# Altium schematic symbol library 连接器.SchLib: 51 symbols
Pins are listed as number, name and electrical type; pins without a type are passive.

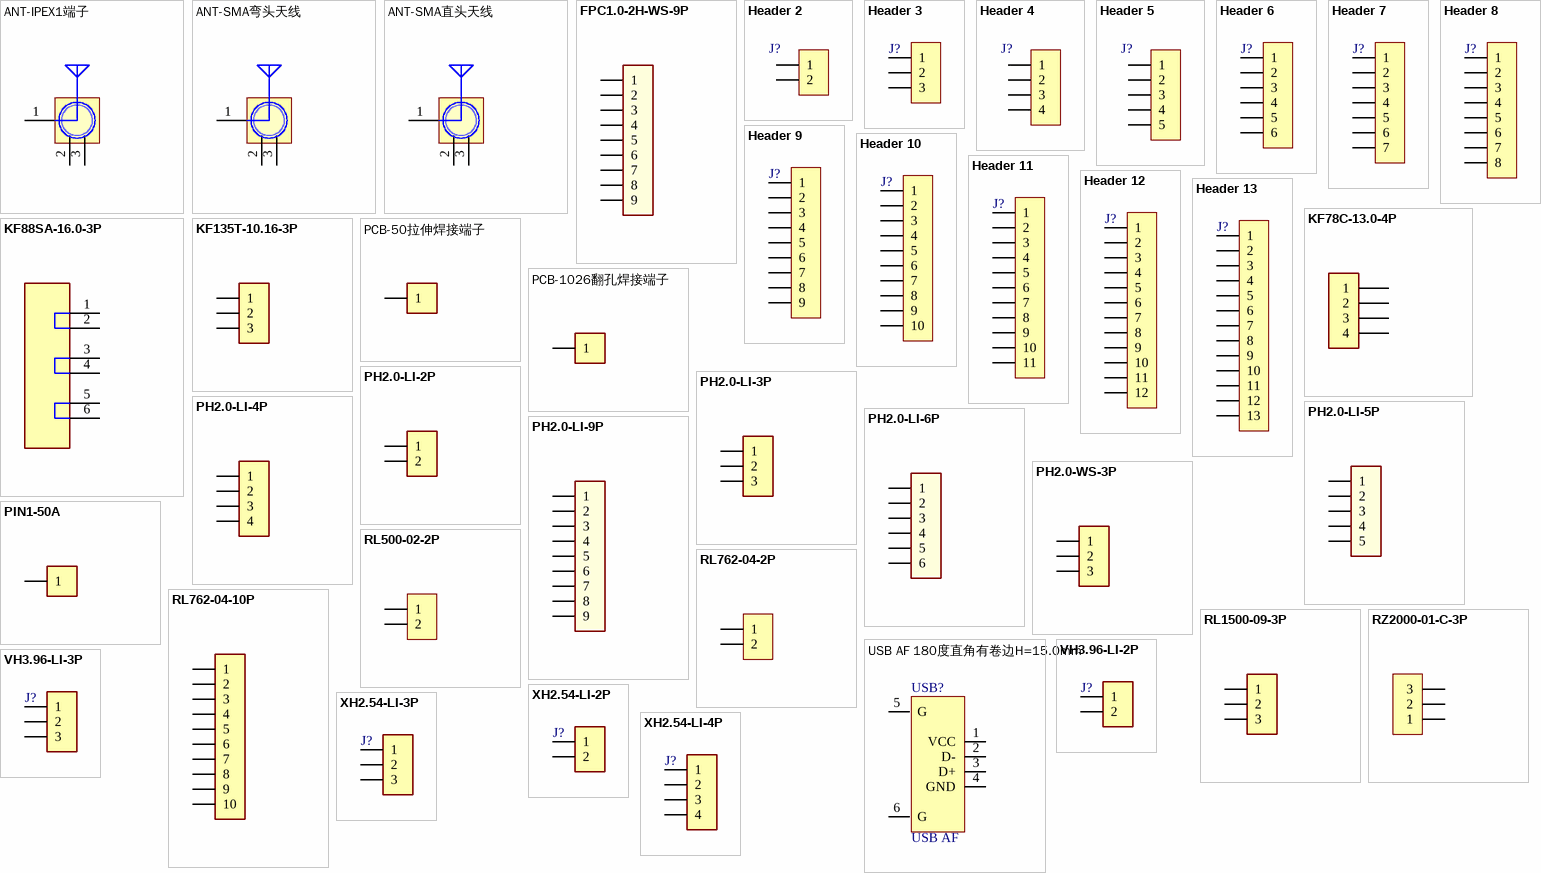
[diagram p0: symbols ANT-IPEX1端子 to XH2.54-LI-4P]

## ANT-IPEX1端子
designator ANT?
IPEX1端子; 金蝶料号: 010118020001; 插件/贴片: 贴片; 器件状态: 启用; 厂家: *; 厂家型号: ANT-IPEX1端子; 工作温度: *; 值: *; ComponentLink1Description: New link; ComponentLink1URL: *
footprint ANT-SMA_IPEX (小型贴片IPEX天线座)
pins: 1 ANT, 2 GND, 3 GND

## ANT-SMA弯头天线
designator ANT?
ANT-SMA弯头天线; 金蝶料号: 010118020002; 插件/贴片: 插件; 器件状态: 启用; 厂家: *; 厂家型号: *; 工作温度: *; 值: *; ComponentLink1Description: New link; ComponentLink1URL: *
footprint ANT-SMA_FR (SMA 90度射频天线座)
pins: 1 ANT, 2 GND, 3 GND

## ANT-SMA直头天线
designator ANT?
金蝶料号: 010118020003; 插件/贴片: 插件; 器件状态: 启用; 厂家: *; 厂家型号: *; 工作温度: *; 值: *; ComponentLink1Description: New link; ComponentLink1URL: *
footprint ANT-SMA-KE-LI (SMA 立式直插射频天线座)
pins: 1 ANT, 2 GND, 3 GND

## FPC1.0-2H-WS-9P
designator J?
FPC端子; 插件/贴片: 贴片; 器件状态: 启用; 厂家: *; 厂家型号: *; 金蝶料号: *; 工作温度: *; 值: *; ComponentLink1Description: New link; ComponentLink1URL: *
footprint FPC1.0-2H-WS-9P (翻盖FPC，脚距1mm，不含脚（长13.9mm，宽5.2mm，高1.96mm）)
pins: 1, 2, 3, 4, 5, 6, 7, 8, 9

## Header 2
designator J?, comment HDR-1X2  (value not drawn)
2P接插件; 版权归属: 源创客; BOM名称: 2P接插件; 学习资源: www.ooocke.com
footprint HDR2.54-LI-2P (排针，2脚)
pins: 1, 2

## Header 3
designator J?, comment HDR-1X3  (value not drawn)
3P接插件; 版权归属: 源创客; BOM名称: 3P接插件; 学习资源: www.ooocke.com
footprint HDR2.54-LI-3P (排针，3脚)
pins: 1, 2, 3

## Header 4
designator J?, comment HDR-1X4  (value not drawn)
4P接插件; 版权归属: 源创客; BOM名称: 4P接插件; 学习资源: www.ooocke.com
footprint HDR2.54-LI-4P (排针，4脚)
pins: 1, 2, 3, 4

## Header 5
designator J?, comment HDR-1X5  (value not drawn)
5P接插件; 版权归属: 源创客; BOM名称: 5P接插件; 学习资源: www.ooocke.com
footprint HDR2.54-LI-5P (排针，5脚)
pins: 1, 2, 3, 4, 5

## Header 6
designator J?, comment HDR-1X6  (value not drawn)
6P接插件; 版权归属: 源创客; BOM名称: 6P接插件; 学习资源: www.ooocke.com
footprint HDR2.54-LI-6P (排针，6脚)
pins: 1, 2, 3, 4, 5, 6

## Header 7
designator J?, comment HDR-1X7  (value not drawn)
7P接插件; 版权归属: 源创客; BOM名称: 7P接插件; 学习资源: www.ooocke.com
footprint HDR2.54-LI-7P (排针，8脚)
pins: 1, 2, 3, 4, 5, 6, 7

## Header 8
designator J?, comment HDR-1X8  (value not drawn)
8P接插件; 版权归属: 源创客; BOM名称: 8P接插件; 学习资源: www.ooocke.com
footprint HDR2.54-LI-8P (排针，8脚)
pins: 1, 2, 3, 4, 5, 6, 7, 8

## Header 9
designator J?, comment HDR-1X9  (value not drawn)
9P接插件; 版权归属: 源创客; BOM名称: 9P接插件; 学习资源: www.ooocke.com
footprint HDR2.54-LI-9P (排针，9脚)
pins: 1, 2, 3, 4, 5, 6, 7, 8, 9

## Header 10
designator J?, comment HDR-1X10  (value not drawn)
10P接插件; 版权归属: 源创客; BOM名称: 10P接插件; 学习资源: www.ooocke.com
footprint HDR2.54-LI-10P (排针，10脚)
pins: 1, 2, 3, 4, 5, 6, 7, 8, 9, 10

## Header 11
designator J?, comment HDR-1X11  (value not drawn)
11P接插件; 版权归属: 源创客; BOM名称: 11P接插件; 学习资源: www.ooocke.com
footprint HDR2.54-LI-11P (排针)
pins: 1, 2, 3, 4, 5, 6, 7, 8, 9, 10, 11

## Header 12
designator J?, comment HDR-1X12  (value not drawn)
12P接插件; 版权归属: 源创客; BOM名称: 12P接插件; 学习资源: www.ooocke.com
footprint HDR2.54-LI-12P (排针，13脚)
pins: 1, 2, 3, 4, 5, 6, 7, 8, 9, 10, 11, 12

## Header 13
designator J?, comment HDR-1X13  (value not drawn)
13P接插件; 版权归属: 源创客; BOM名称: 13P接插件; 学习资源: www.ooocke.com
footprint HDR2.54-LI-13P (排针，13脚)
pins: 1, 2, 3, 4, 5, 6, 7, 8, 9, 10, 11, 12, 13

## KF78C-13.0-4P
designator J?
栅栏式接线端子 13.0MM  4P  40A; 厂家: *; 厂家型号: *; 金蝶料号: *; 工作温度: *; 插件/贴片: *; 值: *; 器件状态: *; ComponentLink1Description: New link; ComponentLink1URL: *
footprint KF78C-13.0-4P
pins: 1, 2, 3, 4

## KF88SA-16.0-3P
designator J?
栅栏式接线端子 16.0MM  3P  76A; 厂家: *; 厂家型号: *; 金蝶料号: *; 工作温度: *; 插件/贴片: *; 值: *; 器件状态: *; ComponentLink1Description: New link; ComponentLink1URL: *
footprint KF88SA-16.0-3P
pins: 1, 2, 3, 4, 5, 6

## KF135T-10.16-3P
designator J?
KF135T接线端子 3P; 厂家: 科发; 金蝶料号: 010118050149; 插件/贴片: 插件; 型号: *
footprint KF135T-10.16-3P
pins: 1, 2, 3

## PCB-50拉伸焊接端子
designator J?, comment 42A 拉伸焊接端子
42A; 厂家型号: PCB-50翻孔焊接端子; 金蝶料号: 010118050110; 插件/贴片: 插件; 器件状态: 在用
footprint PCB-50 (9*6.5*13.5)
pins: 1

## PCB-1026翻孔焊接端子
designator J?, comment 85A 翻孔焊接端子
85A; 厂家型号: PCB-1026翻孔焊接端子; 金蝶料号: 010118050109; 插件/贴片: 插件; 器件状态: 在用
footprint PCB-1026 (13*11.8*13)
pins: 1

## PH2.0-LI-2P
designator J?
PH端子 2.0MM 2P; 插件/贴片: 插件; 器件状态: 启用; 厂家: *; 厂家型号: *; 金蝶料号: *; 工作温度: *; 值: *; ComponentLink1Description: New link; ComponentLink1URL: *
footprint PH2.0-LI-2P (长：5.9mm，宽：4.7mm，高：6mm)
pins: 1, 2

## PH2.0-LI-3P
designator J?
PH2.0-3P 直插  耐高温; 金蝶料号: 010118050107; 插件/贴片: 插件; 器件状态: 启用; 厂家: *; 厂家型号: PH2.0-3P 直插  耐高温; 工作温度: *; 值: *; ComponentLink1Description: New link; ComponentLink1URL: *
footprint PH2.0-LI-3P (长：7.9mm，宽：4.7mm，高：6mm)
pins: 1, 2, 3

## PH2.0-LI-4P
designator J?
PH端子 2.0MM 4P; 插件/贴片: 插件; 器件状态: 启用; 厂家: *; 厂家型号: *; 金蝶料号: *; 工作温度: *; 值: *; ComponentLink1Description: New link; ComponentLink1URL: *
footprint PH2.0-LI-4P (长：9.9mm，宽：4.7mm，高：6mm)
pins: 1, 2, 3, 4

## PH2.0-LI-5P
designator J?
PH接线端子 2.0MM 5P; 厂家: 逸特; 金蝶料号: 010118050114; 插件/贴片: 插件; 器件状态: 启用; 厂家型号: PH2.0-LI-5P; 工作温度: *; 值: PH2.0-LI-5P; ComponentLink1Description: New link; ComponentLink1URL: *
footprint PH2.0-LI-5P (长：11.9mm，宽：4.7mm，高：6mm)
pins: 1, 2, 3, 4, 5

## PH2.0-LI-6P
designator J?
PH接线端子 2.0MM 6P; 厂家: 逸特; 金蝶料号: 010118050090; 插件/贴片: 插件; 器件状态: 启用; 厂家型号: PH2.0-LI-6P; 工作温度: *; 值: PH2.0-LI-6P; ComponentLink1Description: New link; ComponentLink1URL: *
footprint PH2.0-LI-6P (长：13.9mm，宽：4.7mm，高：6mm)
pins: 1, 2, 3, 4, 5, 6

## PH2.0-LI-9P
designator J?
PH端子 2.0MM 9P; 插件/贴片: 插件; 厂家: *; 厂家型号: *; 金蝶料号: *; 工作温度: *; 值: *; 器件状态: *; ComponentLink1Description: New link; ComponentLink1URL: *
footprint PH2.0-LI-9P (长：19.9mm，宽：4.7mm，高：6mm)
pins: 1, 2, 3, 4, 5, 6, 7, 8, 9

## PH2.0-WS-3P
designator J?
PH端子 2.0MM 3P 卧贴; 厂家型号: PH2.0-3P 卧贴  耐高温; 金蝶料号: 010118050106; 插件/贴片: 插件; 器件状态: 启用; 厂家: *; 工作温度: *; 值: *; ComponentLink1Description: New link; ComponentLink1URL: *
footprint PH2.0-WS-3P
pins: 1, 2, 3

## PIN1-50A
designator J?
50A; 插件/贴片: 插件; 器件状态: 启用; 厂家: *; 厂家型号: *; 金蝶料号: *; 工作温度: *; 值: *; ComponentLink1Description: New link; ComponentLink1URL: *
footprint PIN1_50A
pins: 1

## RL500-02-2P
designator J?
螺钉式接线端子 5.00mm; 厂家: 英普达; 金蝶料号: 010118050102; 插件/贴片: 插件; 器件状态: 启用; 厂家型号: RL500-02-2P; 工作温度: *; 值: RL500-02-2P; ComponentLink1Description: New link; ComponentLink1URL: *
footprint RL500-02-9P (螺钉式接线端子，脚距5.00mm)
pins: 1, 2

## RL762-04-2P
designator J?
螺钉式接线端子 7.62mm; 厂家: 英普达; 金蝶料号: 010118050101; 插件/贴片: 插件; 器件状态: 启用; 厂家型号: RL762-04-2P; 工作温度: *; 值: RL762-04-2P; ComponentLink1Description: New link; ComponentLink1URL: *
footprint RL762-04-2P (螺钉式接线端子，脚距7.62mm)
pins: 1, 2

## RL762-04-10P
designator U?
螺钉式PCB接线端子 RL系列，7.62mm间距， AC300V，20A，10P; 厂家: 苏州英普达; 金蝶料号: 010118050100; 工作温度: -40℃～+120℃; 插件/贴片: 插件; 器件状态: 启用; 厂家型号: RL762-04-10P; 值: *; ComponentLink1Description: New link; ComponentLink1URL: *
footprint PCB-7.62MM-10P-偏脚4.1
pins: 1, 2, 3, 4, 5, 6, 7, 8, 9, 10

## RL1500-09-3P
designator U?
螺钉式PCB接线端子; 厂家: 英普达; 插件/贴片: 插件; 器件状态: 启用; 厂家型号: RL1500-09-3P; 金蝶料号: *; 工作温度: *; 值: RL1500-09-3P; ComponentLink1Description: New link; ComponentLink1URL: *
footprint PCB-15mm-3P
pins: 1, 2, 3

## RZ2000-01-C-3P
designator J?
栅栏式接线端子 3P 80A; 厂家: 英普达; 金蝶料号: 010118050111; 插件/贴片: 插件; 器件状态: 在用; 厂家型号: RZ2000-01-C-3P; 值: RZ2000-01-C-3P
footprint RZ2000-01-C-3P (间距20mm，高36mm，宽28mm)
pins: 1, 2, 3

## USB AF 180度直角有卷边H=15.0mm
designator USB?, comment USB AF
USB座子 USB AF 180度直角有卷边H=15.0mm 1.5A; 厂家: 富盈精密部件(深圳)有限公司; 金蝶料号: 010118050055; 插件/贴片: 插件; 器件状态: 启用; 厂家型号: USB AF 180度直角有卷边H=15.0mm; 工作温度: *; 值: *
footprint USB-A-G
pins: 1 VCC, 2 D-, 3 D+, 4 GND, 5 G, 6 G

## VH3.96-LI-2P
designator J?  (value not drawn)
VH端子 2P立插 7A; 金蝶料号: 010118050153; 插件/贴片: 插件; 器件状态: 启用; 厂家型号: VH3.96-LI-2P; 工作温度: *; 值: *
footprint VH3.96-LI-2P (接插件，25V/5A)
pins: 1, 2

## VH3.96-LI-3P
designator J?  (value not drawn)
VH端子 3P立插 7A; 金蝶料号: 010118050154; 插件/贴片: 插件; 器件状态: 启用; 厂家型号: VH3.96-LI-3P; 工作温度: *; 值: *
footprint VH3.96-LI-3P (接插件，25V/5A  淘宝ID:黄晶宝石   店铺网址:https://shop463601444.taobao.com)
pins: 1, 2, 3

## XH2.54-LI-2P
designator J?  (value not drawn)
XH端子 2P立插; 厂家: 逸特; 金蝶料号: 010118050054; 插件/贴片: 插件; 器件状态: 启用; 厂家型号: *; 工作温度: *; 值: *
footprint XH2.54-LI-2P (接插件，2P)
pins: 1, 2

## XH2.54-LI-3P
designator J?  (value not drawn)
XH端子 3P立插; 金蝶料号: 010118050134; 插件/贴片: 插件; 器件状态: 启用; 厂家型号: XH2.54-LI-3P; 工作温度: *; 值: *
footprint XH2.54-LI-3P (接插件，3P)
pins: 1, 2, 3

## XH2.54-LI-4P
designator J?  (value not drawn)
XH端子 4P立插; 厂家: 逸特; 金蝶料号: 010118050095; 插件/贴片: 插件; 器件状态: 启用; 厂家型号: XH端子 4P立插; 工作温度: *; 值: *
footprint XH2.54-LI-4P (接插件，4P)
pins: 1, 2, 3, 4

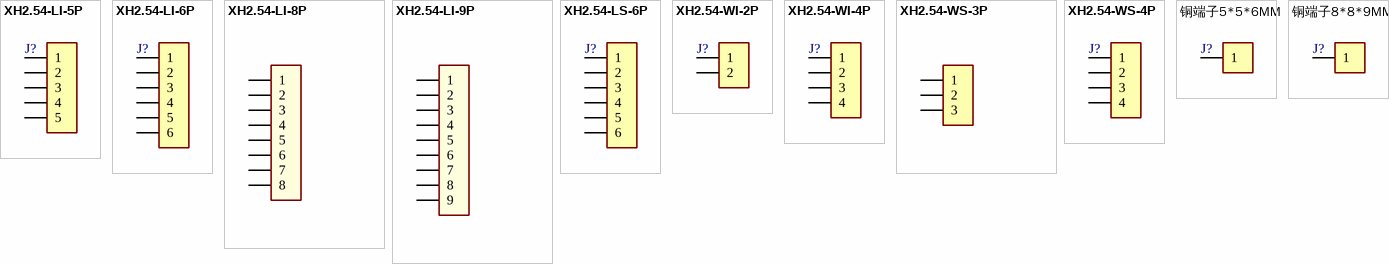
[diagram p1: symbols XH2.54-LI-5P to 铜端子8*8*9MM]

## XH2.54-LI-5P
designator J?  (value not drawn)
XH端子 5P立贴; 厂家: 逸特; 厂家型号: XH端子 5P立插; 金蝶料号: 010118050053; 插件/贴片: 贴片; 器件状态: 启用; 工作温度: *; 值: *
footprint XH2.54-LI-5P (接插件，5P)
pins: 1, 2, 3, 4, 5

## XH2.54-LI-6P
designator J?  (value not drawn)
XH端子 6P立贴; 厂家: 逸特; 厂家型号: XH端子 6P立插; 金蝶料号: 010118050093; 插件/贴片: 贴片; 器件状态: 启用; 工作温度: *; 值: *
footprint XH2.54-LI-6P (接插件，6P)
pins: 1, 2, 3, 4, 5, 6

## XH2.54-LI-8P
designator J?
XH端子 2.54MM 8P; 厂家: 逸特; 金蝶料号: 010118050137; 插件/贴片: 插件; 厂家型号: XH2.54-LI-8P; 工作温度: *; 值: *; 器件状态: *; ComponentLink1Description: New link; ComponentLink1URL: *
footprint XH2.54-LI-8P (接插件，8P)
pins: 1, 2, 3, 4, 5, 6, 7, 8

## XH2.54-LI-9P
designator J?
XH端子 2.54MM 9P; 插件/贴片: 插件; 厂家: *; 厂家型号: *; 金蝶料号: *; 工作温度: *; 值: *; 器件状态: *; ComponentLink1Description: New link; ComponentLink1URL: *
footprint XH2.54-LI-9P (接插件，9P)
pins: 1, 2, 3, 4, 5, 6, 7, 8, 9

## XH2.54-LS-6P
designator J?  (value not drawn)
XH端子 6P立贴; 厂家: 逸特; 金蝶料号: 010118050091; 插件/贴片: 贴片; 器件状态: 启用; 厂家型号: XH端子 6P立贴; 工作温度: *; 值: *
footprint XH2.54-LS-6P (长：20mm，宽：6mm，高：8.3mm)
pins: 1, 2, 3, 4, 5, 6

## XH2.54-WI-2P
designator J?  (value not drawn)
XH端子 2P卧插; 厂家: 逸特; 金蝶料号: 010118050069; 插件/贴片: 插件; 器件状态: 启用; 厂家型号: XH端子 2P卧插; 工作温度: *; 值: *
footprint XH2.54-WI-2P (接插件，2P)
pins: 1, 2

## XH2.54-WI-4P
designator J?  (value not drawn)
XH端子 4P 卧插; 厂家: 逸特; 金蝶料号: 010118050160; 插件/贴片: 插件; 器件状态: 启用; 厂家型号: XH端子 4P 卧插; 工作温度: *; 值: *
footprint XH2.54-WI-4P (接插件，4P)
pins: 1, 2, 3, 4

## XH2.54-WS-3P
designator J?
XH端子 3P卧贴; 厂家型号: XH2.54-3P 卧贴 耐高温; 金蝶料号: 010118050105; 插件/贴片: 插件; 器件状态: 在用
footprint XH2.54-WS-3P (长：12.5mm，宽：8mm，高：6.1mm)
pins: 1, 2, 3

## XH2.54-WS-4P
designator J?  (value not drawn)
XH端子 4P卧贴; 厂家: 逸特; 金蝶料号: 010118050091; 插件/贴片: 插件; 器件状态: 启用; 厂家型号: XH端子 4P卧贴; 工作温度: *; 值: *
footprint XH2.54-LI-4P (接插件，4P)
pins: 1, 2, 3, 4

## 铜端子5*5*6MM
designator J?  (value not drawn)
厂家: 逸特; 金蝶料号: 010118050056; 插件/贴片: 插件; 器件状态: 启用; 厂家型号: 铜端子5*5*6MM; 工作温度: *; 值: *
footprint PIN1-5X5X6
pins: 1

## 铜端子8*8*9MM
designator J?, comment 铜端子8*8*9  (value not drawn)
铜端子8*8*9MM; 厂家: 逸特; 金蝶料号: 010118050057; 插件/贴片: 插件; 器件状态: 启用; 厂家型号: 铜端子8*8*9MM; 工作温度: *; 值: *
footprint PIN1-8X8X9 (铜端子)
pins: 1